# Altium schematic symbol library Schlib1_TRP.SchLib: 5 symbols
Pins are listed as number, name and electrical type; pins without a type are passive.

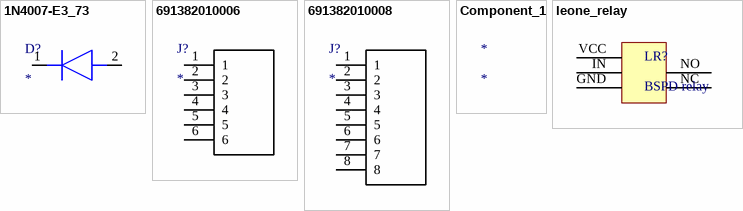
[diagram p0: symbols 1N4007-E3_73 to leone_relay]

## 1N4007-E3_73
designator D?
Diode; Manufacturer_Name: Vishay; Manufacturer_Part_Number: 1N4007-E3/73; Description: VISHAY - 1N4007-E3/73.. - \u6807\u51C6\u4E8C\u6781\u7BA1; Datasheet Link: https://mouser.componentsearchengine.com/Datasheets/2/1N4007-E3_73.pdf; Mouser Part Number: 625-1N4007-E3/73; Mouser Price/Stock: https://www.mouser.co.uk/ProductDetail/Vishay-General-Semiconductor/1N4007-E3-73?qs=N4vtoAxH%2FSqT3Ng3e4K0Gw%3D%3D; Arrow Part Number: 1N4007-E3/73; Arrow Price/Stock: https://www.arrow.com/en/products/1n4007-e373/vishay?region=europe
footprint DIOAD1405W86L465D235
pins: 1 K, 2 A

## 691382010006
designator J?
Connector; Manufacturer_Name: Wurth Elektronik; Manufacturer_Part_Number: 691382010006; Datasheet Link: https://katalog.we-online.de/em/datasheet/6913820100xx.pdf; Height: 8.3mm; Mouser Part Number: 710-691382010006; Mouser Price/Stock: https://www.mouser.co.uk/ProductDetail/Wurth-Elektronik/691382010006?qs=a9WhcLg8qCzBFK%252BQrj%2FNUg%3D%3D
footprint SHDRRA6W100P0X250_1X6_1700X1010X830P
pins: 1, 2, 3, 4, 5, 6

## 691382010008
designator J?
Connector; Manufacturer_Name: Wurth Elektronik; Manufacturer_Part_Number: 691382010008; Datasheet Link: https://katalog.we-online.de/em/datasheet/6913820100xx.pdf; Height: 8.3mm; Mouser Part Number: 710-691382010008; Mouser Price/Stock: https://www.mouser.co.uk/ProductDetail/Wurth-Elektronik/691382010008?qs=a9WhcLg8qCws8OYIQRBfFA%3D%3D
footprint SHDRRA8W80P0X250_1X8_2200X1010X830P
footprint SHDRRA8W80P0X250_1X8_2200X1010X830P
pins: 1, 2, 3, 4, 5, 6, 7, 8

## Component_1
designator *

## leone_relay
designator LR?, comment BSPD relay
footprint relay
pins: GND, IN, NC, NO, VCC